# Altium footprint library INF-PG-TO-263-7-2_L.PcbLib: 1 footprints
Each footprint in its own frame and in the unit in brackets; x right, y up, seen from the top. Pads: shape width x height; smd on the part's side, far side on the other; paste and mask are expansions set on the pad; w line width, h text height; cw(c..) or ccw(c..) is an arc to the next point about the centre after c.
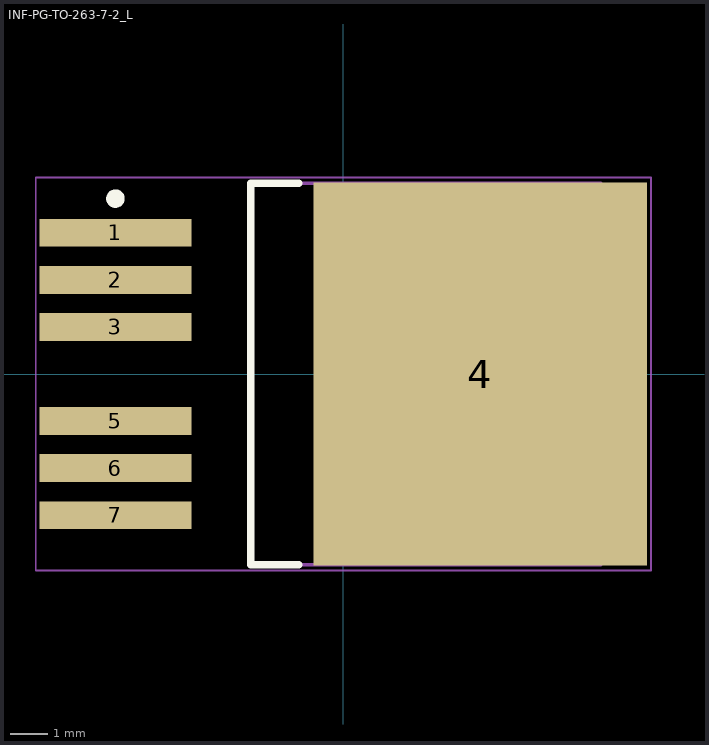
[diagram p0: the footprint, top view; thin cyan lines are the x and y axes]

## INF-PG-TO-263-7-2_L [mm] "DPAK, 7-Leads, Body 10.1x8.98mm, Pitch 1.27mm, IPC High Density"
height 4.57
pads (7):
  rect 4.1x0.75 smd: 1(-6.15,3.81) 2(-6.15,2.54) 3(-6.15,1.27) 5(-6.15,-1.27) 6(-6.15,-2.54) 7(-6.15,-3.81)
  rect 9x10.35 smd: 4(3.7,0)
Top Overlay:
  circle w0.25: c-6.15,4.735 r0.125
  lines w0.2: -1.2,-5.15 -2.5,-5.15 -2.5,5.15 -1.2,5.15
Mechanical 13:
  lines w0.1: -2.5,-5.15 -2.5,5.15 6.95,5.15 6.95,-5.15 -2.5,-5.15
Mechanical 15:
  lines w0.05: -8.3,-5.3 -8.3,5.3 8.3,5.3 8.3,-5.3 -8.3,-5.3
  lines w0.1: -0.5,0 0.5,0 ; 0,-0.5 0,0.5
3D body: height 4.57, standoff 0, extent -2.5,-5.15 6.95,5.15